# Altium footprint library Train2.PCBLIB: 223 footprints (part 14 of 14)
Each footprint in its own frame and in the unit in brackets; x right, y up, seen from the top. Pads: shape width x height; smd on the part's side, far side on the other; paste and mask are expansions set on the pad; w line width, h text height; cw(c..) or ccw(c..) is an arc to the next point about the centre after c.
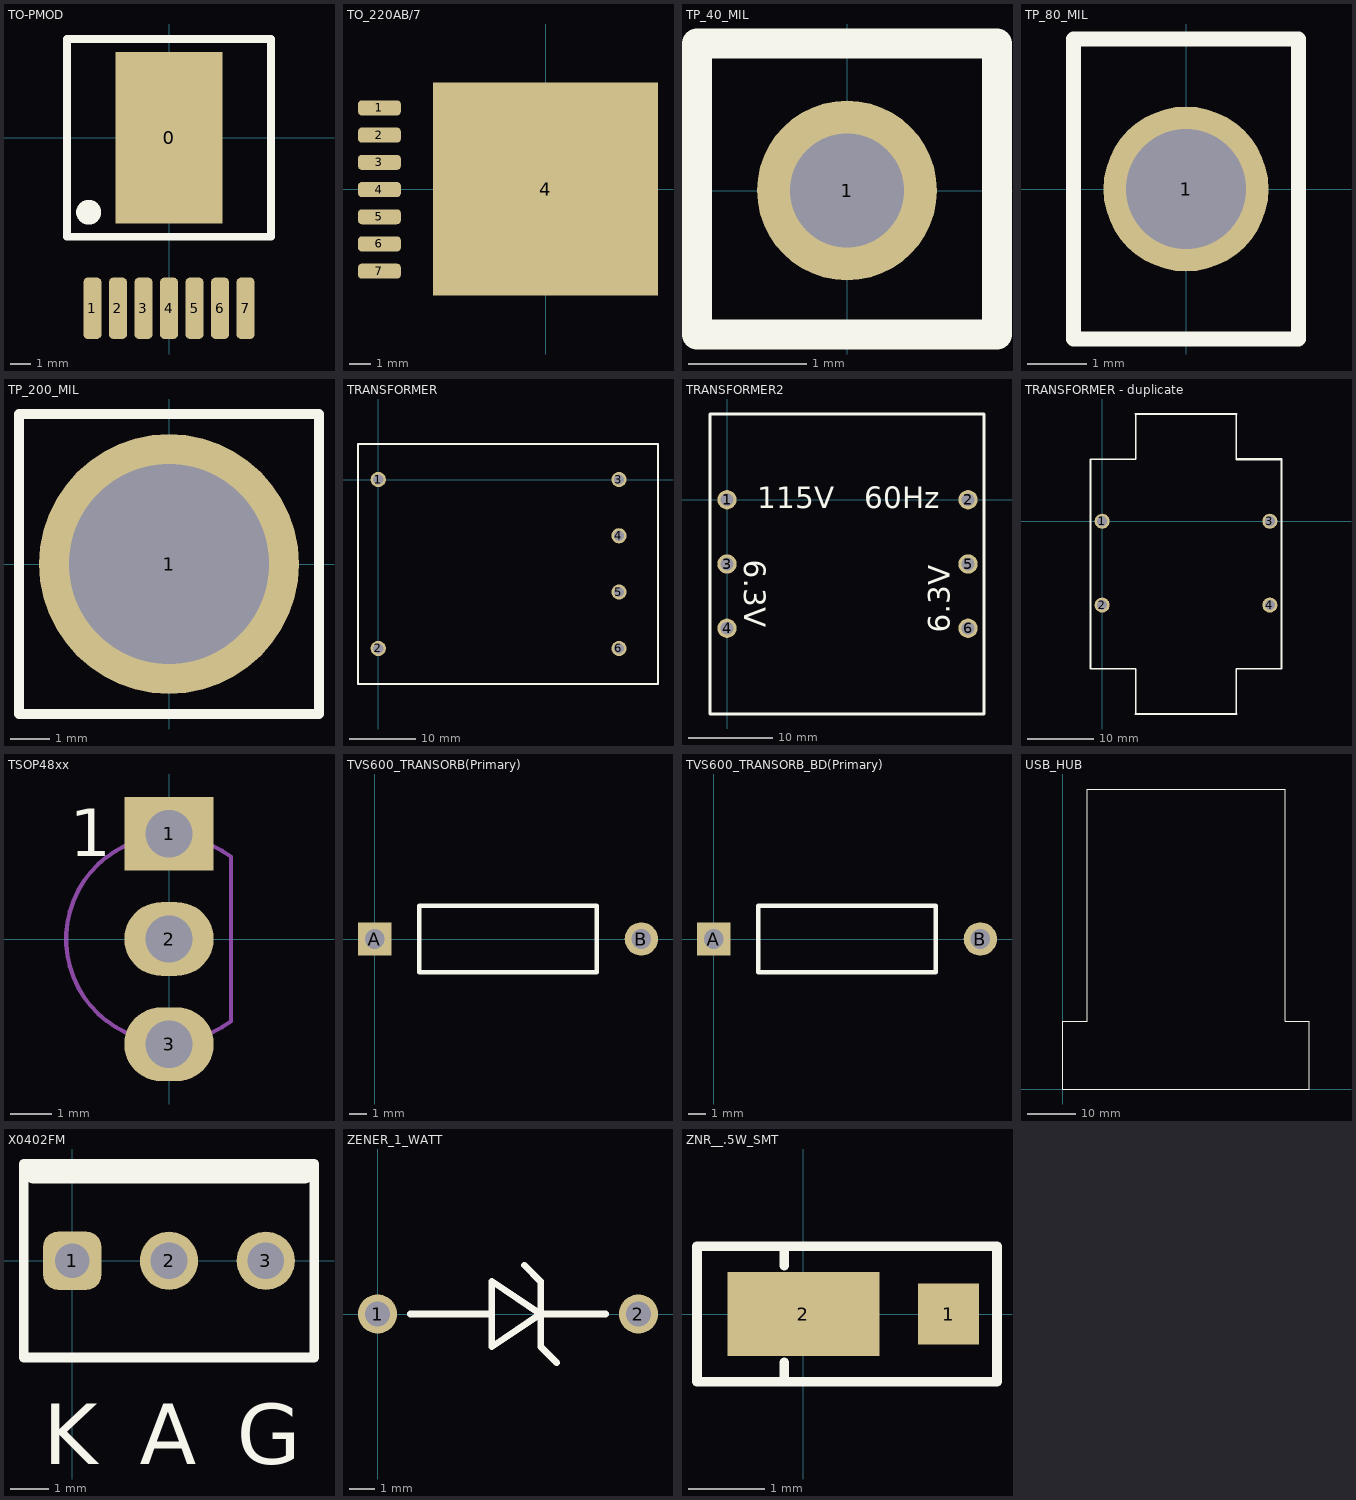
[diagram p13: the footprints below, top view; thin cyan lines are the x and y axes]

## TO-PMOD [mm]
pads (8):
  rect 5.35x8.54 smd: 0(0,0)
  rrect50% 0.89x3.06 smd: 1(-3.81,-8.48) 2(-2.54,-8.48) 3(-1.27,-8.48) 4(0,-8.48) 5(1.27,-8.48) 6(2.54,-8.48) 7(3.81,-8.48)
Top Overlay:
  circle w1: c-4,-3.7 r0.12
  lines w0.381: -5.08,-4.925 -5.08,4.925 5.08,4.925 5.08,-4.925 -5.08,-4.925

## TO_220AB/7 [mm] "SMD"
pads (8):
  rrect50% 2x0.7 smd: 1(-7.75,3.785) 2(-7.75,2.515) 3(-7.75,1.245) 4(-7.75,-0.025) 5(-7.75,-1.295) 6(-7.75,-2.565) 7(-7.75,-3.835)
  rect 10.5x9.95 smd: 4(0,0)

## TP_40_MIL [mil]
pads (1):
  round 60 hole 38: 1(0,0)
Top Overlay:
  lines w10: -50,-48 -50,49 50,49 50,-48 -50,-48

## TP_80_MIL [mil]
pads (1):
  round 110 hole 80: 1(0,0)
Top Overlay:
  lines w10: -75,-100 -75,100 75,100 75,-100 -75,-100

## TP_200_MIL [mil]
pads (1):
  round 260 hole 200: 1(0,0)
Top Overlay:
  lines w10: -150,-150 150,-150 150,150 -150,150 -150,-150

## TRANSFORMER [mil]
pads (6):
  round 90 hole 60: 1(0,0) 2(0,-1000) 3(1425,0) 4(1425,-333) 5(1425,-666) 6(1425,-1000)
Top Overlay:
  lines w10: -120,-1210 -120,210 ; 1656,-1210 1656,210
  lines w12: -120,-1210 1656,-1210 ; -120,210 1656,210

## TRANSFORMER2 [mil]
pads (6):
  round 90 hole 60: 1(0,0) 2(1125,0) 3(0,-300) 4(0,-600) 5(1125,-300) 6(1125,-600)
Top Overlay:
  lines w15: -80,-1000 -80,400 0,400 1200,400 1200,-1000 -80,-1000
  text "6.3V" at 1040,-620 h100
  text "6.3V" at 80,-280 h100
  text "60Hz" at 640,-40 h100
  text "115V" at 140,-40 h100

## TRANSFORMER - duplicate [mil]
pads (4):
  round 90 hole 60: 1(0,0) 2(0,-500) 3(1000,0) 4(1000,-500)
Top Overlay:
  lines w10: 200,-1150 200,-880 -70,-880 -70,-610 -70,370 200,370 200,640 ; 800,-1150 800,-880 1070,-880 1070,-610 1070,340 ; 800,370 800,640
  lines w12: 200,-1150 800,-1150 ; 200,640 800,640 ; 800,370 1040,370 1070,370 1070,340

## TSOP48xx [mil]
pads (3):
  rect 85x70 hole 45: 1(0,100)
  oval 85x70 hole 45: 2(0,0) 3(0,-100)
Top Overlay:
  text "1" at -94.49,78.74 h45
Mechanical 13:
  lines w3.94: 59.06,-77.95 cw(c0,0) 59.06,77.95 59.05,-77.95
Mechanical 15:
  lines w3.94: -19.68,0 19.68,0 ; 0,-19.68 0,19.69

## TVS600_TRANSORB(Primary) [mil]
pads (2):
  rect 75x75 hole 44: A(0,0)
  round 75 hole 44: B(600,0)
Top Overlay:
  lines w10: 100,-75 100,75 500,75 500,-75 100,-75

## TVS600_TRANSORB_BD(Primary) [mil]
pads (2):
  rect 75x75 hole 44: A(0,0)
  round 75 hole 44: B(600,0)
Top Overlay:
  lines w10: 100,-75 100,75 500,75 500,-75 100,-75

## USB_HUB [mil] "4-Port USB 2.0 HUB"
Top Overlay:
  lines w5: 0,0 0,550 200,550 200,2440.94 1810,2440.94 1810,550 2007.87,550 2007.87,0 0,0

## X0402FM [mil]
pads (3):
  rrect50% 60x60 hole 36: 1(0,0)
  round 60 hole 38: 2(100,0) 3(200,0)
Top Overlay:
  lines w10: -50,-100 -50,100 250,100 250,-100 -50,-100
  lines w20: -40,90 240,90
  text "K" at -30,-210 h62.5
  text "G" at 170,-210 h62.5
  text "A" at 70,-210 h62.5

## ZENER_1_WATT [mil]
pads (2):
  round 60 hole 38: 1(0,0) 2(400,0)
Top Overlay:
  lines w10: 50,0 175,0 ; 225,75 250,50 250,-50 275,-75 ; 350,0 250,0 ; 250,0 175,-50 175,50 250,0

## ZNR__.5W_SMT [mil]
pads (2):
  rect 31.5x31.5 smd: 1(75,0)
  rect 78.7x43.3 smd: 2(0,0)
Top Overlay:
  lines w5: -10,-35 -10,-25 ; -10,25 -10,35 ; -55,-35 100,-35 100,35 -55,35 -55,-35